# Altium footprint library sshi.PcbLib: 16 footprints
Each footprint in its own frame and in the unit in brackets; x right, y up, seen from the top. Pads: shape width x height; smd on the part's side, far side on the other; paste and mask are expansions set on the pad; w line width, h text height; cw(c..) or ccw(c..) is an arc to the next point about the centre after c.
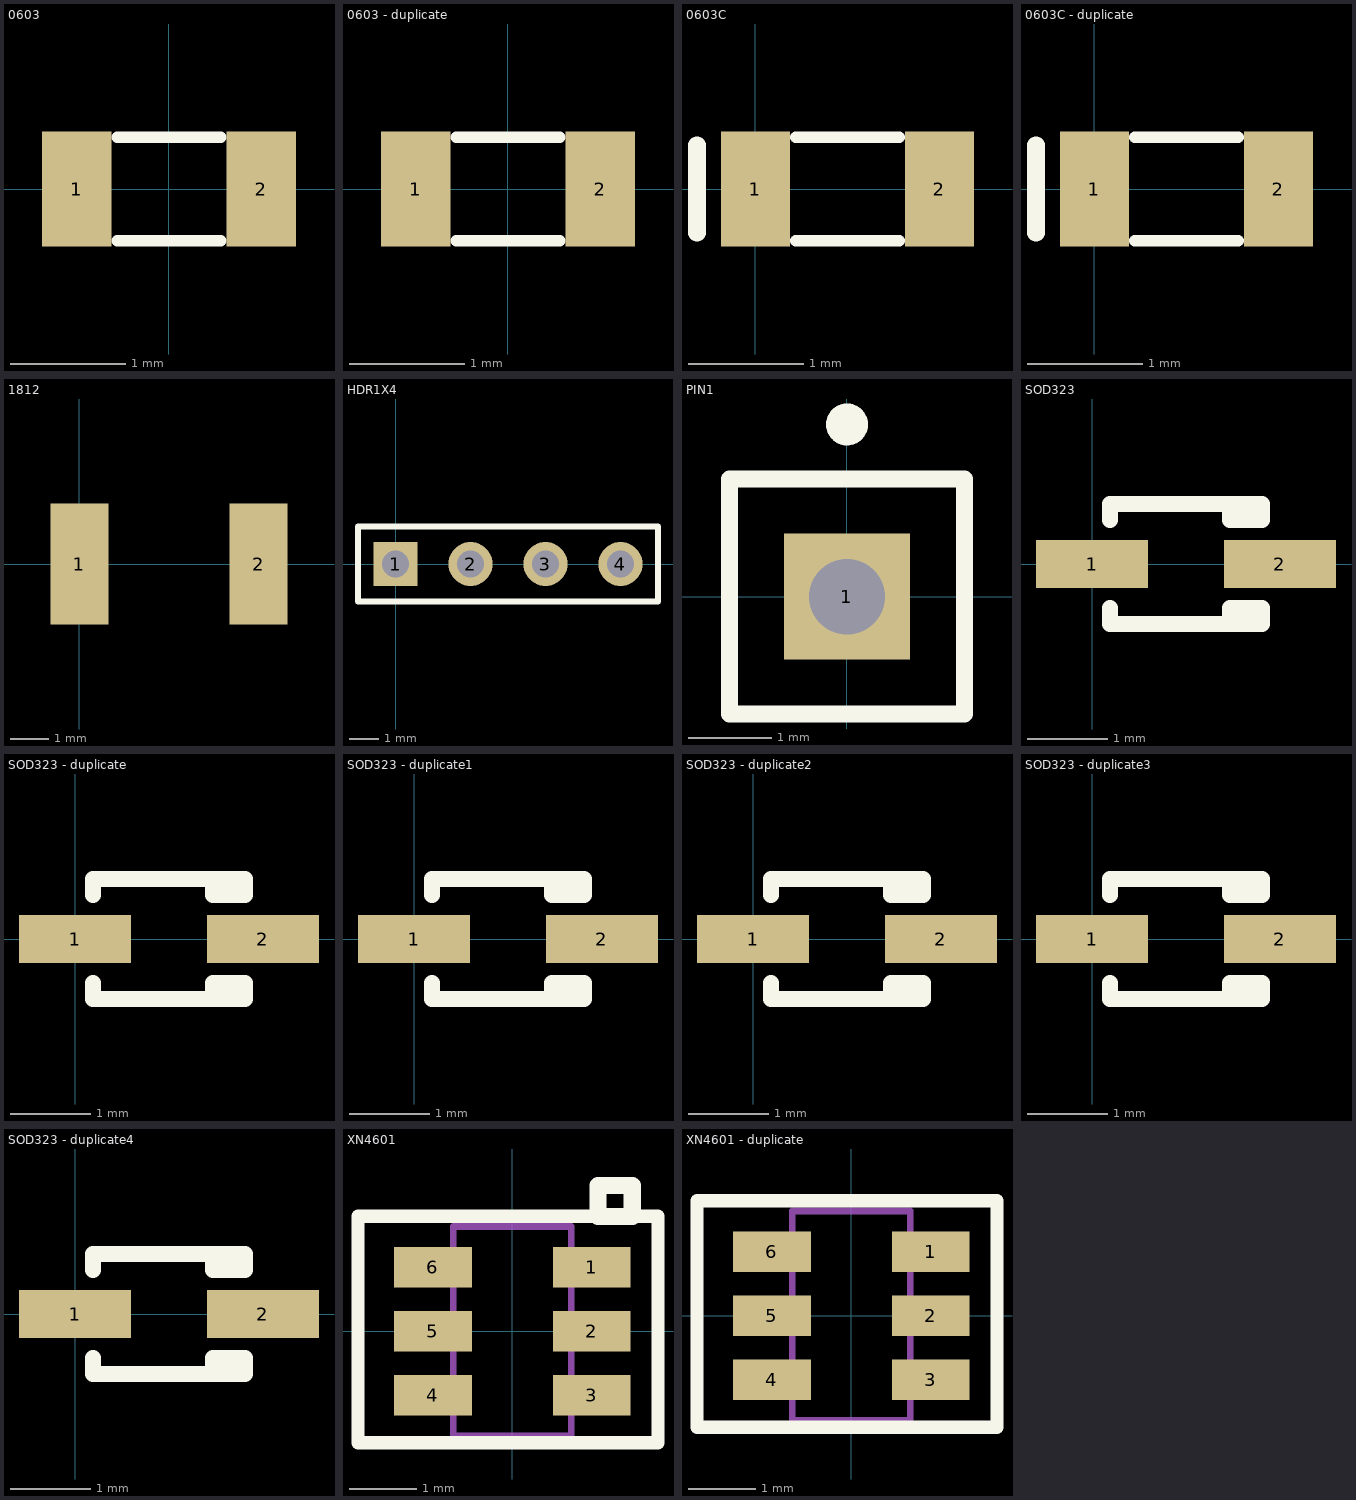
[diagram p0: the footprints below, top view; thin cyan lines are the x and y axes]

## 0603 [mm]
pads (2):
  rect 0.6x1 smd: 1(-0.8,0) 2(0.8,0)
Top Overlay:
  lines w0.1: -0.45,-0.45 0.45,-0.45 ; -0.45,0.45 0.45,0.45
3D body: height 0.45, standoff 0, extent -0.8,-0.4 0.8,0.4

## 0603 - duplicate [mm]
pads (2):
  rect 0.6x1 smd: 1(-0.8,0) 2(0.8,0)
Top Overlay:
  lines w0.1: -0.45,-0.45 0.45,-0.45 ; -0.45,0.45 0.45,0.45
3D body: height 0.45, standoff 0, extent -0.8,-0.4 0.8,0.4

## 0603C [mm]
pads (2):
  rect 0.6x1 smd: 1(0,0) 2(1.6,0)
Top Overlay:
  lines w0.1: 0.35,-0.45 1.25,-0.45 ; 0.35,0.45 1.25,0.45
  lines w0.153: -0.508,-0.381 -0.508,0.381
3D body: height 0.89, standoff -0.01, extent -0.587,-0.517 2.013,0.483

## 0603C - duplicate [mm]
pads (2):
  rect 0.6x1 smd: 1(0,0) 2(1.6,0)
Top Overlay:
  lines w0.1: 0.35,-0.45 1.25,-0.45 ; 0.35,0.45 1.25,0.45
  lines w0.153: -0.508,-0.381 -0.508,0.381
3D body: height 0.89, standoff -0.01, extent -0.587,-0.517 2.013,0.483

## 1812 [mil]
pads (2):
  rect 60x125 smd: 1(0,0) 2(185,0)

## HDR1X4 [mm] "Connector; Header; 4 Position"
height 2
pads (4):
  rect 1.5x1.5 hole 0.9: 1(0,0)
  round 1.5 hole 0.9: 2(2.54,0) 3(5.08,0) 4(7.62,0)
Top Overlay:
  lines w0.2: -1.27,-1.27 -1.27,1.27 8.89,1.27 8.89,-1.27 -1.27,-1.27

## PCBComponent_1 [mm]

## PIN1 [mm] "Connector; Plug"
height 12.5
pads (1):
  rect 1.5x1.5 hole 0.9: 1(0,0)
Top Overlay:
  circle w0.25: c0,2.05 r0.125
  lines w0.2: -1.4,-1.4 1.4,-1.4 1.4,1.4 -1.4,1.4 -1.4,-1.4

## SOD323 [mm] "0805"
pads (2):
  rect 1.4x0.6 smd: 1(0,0) 2(2.35,0)
Top Overlay:
  lines w0.2: 0.225,-0.55 0.225,-0.75 2.125,-0.75 2.125,-0.55 1.725,-0.55 1.725,-0.75 ; 0.225,0.55 0.225,0.75 2.125,0.75 2.125,0.55 1.725,0.55 1.725,0.75
3D body: height 1, standoff 0, extent -0.169,-0.667 2.431,0.633

## SOD323 - duplicate [mm] "0805"
pads (2):
  rect 1.4x0.6 smd: 1(0,0) 2(2.35,0)
Top Overlay:
  lines w0.2: 0.225,-0.55 0.225,-0.75 2.125,-0.75 2.125,-0.55 1.725,-0.55 1.725,-0.75 ; 0.225,0.55 0.225,0.75 2.125,0.75 2.125,0.55 1.725,0.55 1.725,0.75
3D body: height 1, standoff 0, extent -0.169,-0.667 2.431,0.633

## SOD323 - duplicate1 [mm] "0805"
pads (2):
  rect 1.4x0.6 smd: 1(0,0) 2(2.35,0)
Top Overlay:
  lines w0.2: 0.225,-0.55 0.225,-0.75 2.125,-0.75 2.125,-0.55 1.725,-0.55 1.725,-0.75 ; 0.225,0.55 0.225,0.75 2.125,0.75 2.125,0.55 1.725,0.55 1.725,0.75
3D body: height 1, standoff 0, extent -0.169,-0.667 2.431,0.633

## SOD323 - duplicate2 [mm] "0805"
pads (2):
  rect 1.4x0.6 smd: 1(0,0) 2(2.35,0)
Top Overlay:
  lines w0.2: 0.225,-0.55 0.225,-0.75 2.125,-0.75 2.125,-0.55 1.725,-0.55 1.725,-0.75 ; 0.225,0.55 0.225,0.75 2.125,0.75 2.125,0.55 1.725,0.55 1.725,0.75
3D body: height 1, standoff 0, extent -0.169,-0.667 2.431,0.633

## SOD323 - duplicate3 [mm] "0805"
pads (2):
  rect 1.4x0.6 smd: 1(0,0) 2(2.35,0)
Top Overlay:
  lines w0.2: 0.225,-0.55 0.225,-0.75 2.125,-0.75 2.125,-0.55 1.725,-0.55 1.725,-0.75 ; 0.225,0.55 0.225,0.75 2.125,0.75 2.125,0.55 1.725,0.55 1.725,0.75
3D body: height 1, standoff 0, extent -0.169,-0.667 2.431,0.633

## SOD323 - duplicate4 [mm] "0805"
pads (2):
  rect 1.4x0.6 smd: 1(0,0) 2(2.35,0)
Top Overlay:
  lines w0.2: 0.225,-0.55 0.225,-0.75 2.125,-0.75 2.125,-0.55 1.725,-0.55 1.725,-0.75 ; 0.225,0.55 0.225,0.75 2.125,0.75 2.125,0.55 1.725,0.55 1.725,0.75
3D body: height 1, standoff 0, extent -0.169,-0.667 2.431,0.633

## XN4601 [mm] "Composite N-type & P-type Transistors"
height 1.3
pads (6):
  rect 1.15x0.6 smd: 1(1.175,0.95) 2(1.175,0) 3(1.175,-0.95) 4(-1.175,-0.95) 5(-1.175,0) 6(-1.175,0.95)
Top Overlay:
  lines w0.2: -2.286,-1.651 2.159,-1.651 2.159,1.7 -2.286,1.7 -2.286,-1.651
  lines w0.254: 1.27,1.7 1.27,2.159 1.778,2.159 1.778,1.7 1.27,1.7
  text "." at 1.2,1.6 h0.76
Mechanical 13:
  lines w0.1: -0.875,-1.55 -0.875,1.55 0.875,1.55 0.875,-1.55 -0.875,-1.55
3D body: height 1.3, standoff 0.1, extent -0.875,-1.55 0.875,1.55

## XN4601 - duplicate [mm] "Composite N-type & P-type Transistors"
height 1.3
pads (6):
  rect 1.15x0.6 smd: 1(1.175,0.95) 2(1.175,0) 3(1.175,-0.95) 4(-1.175,-0.95) 5(-1.175,0) 6(-1.175,0.95)
Top Overlay:
  lines w0.2: -2.286,-1.651 -2.286,1.7 2.159,1.7 2.159,-1.651 -2.286,-1.651
  text "." at 1.2,1.6 h0.76
Mechanical 13:
  lines w0.1: -0.875,-1.55 0.875,-1.55 0.875,1.55 -0.875,1.55 -0.875,-1.55
3D body: height 1.3, standoff 0.1, extent -0.875,-1.55 0.875,1.55